# Altium schematic symbol library Schlib_Analog_Devices.SchLib: 86 symbols (part 2 of 2)

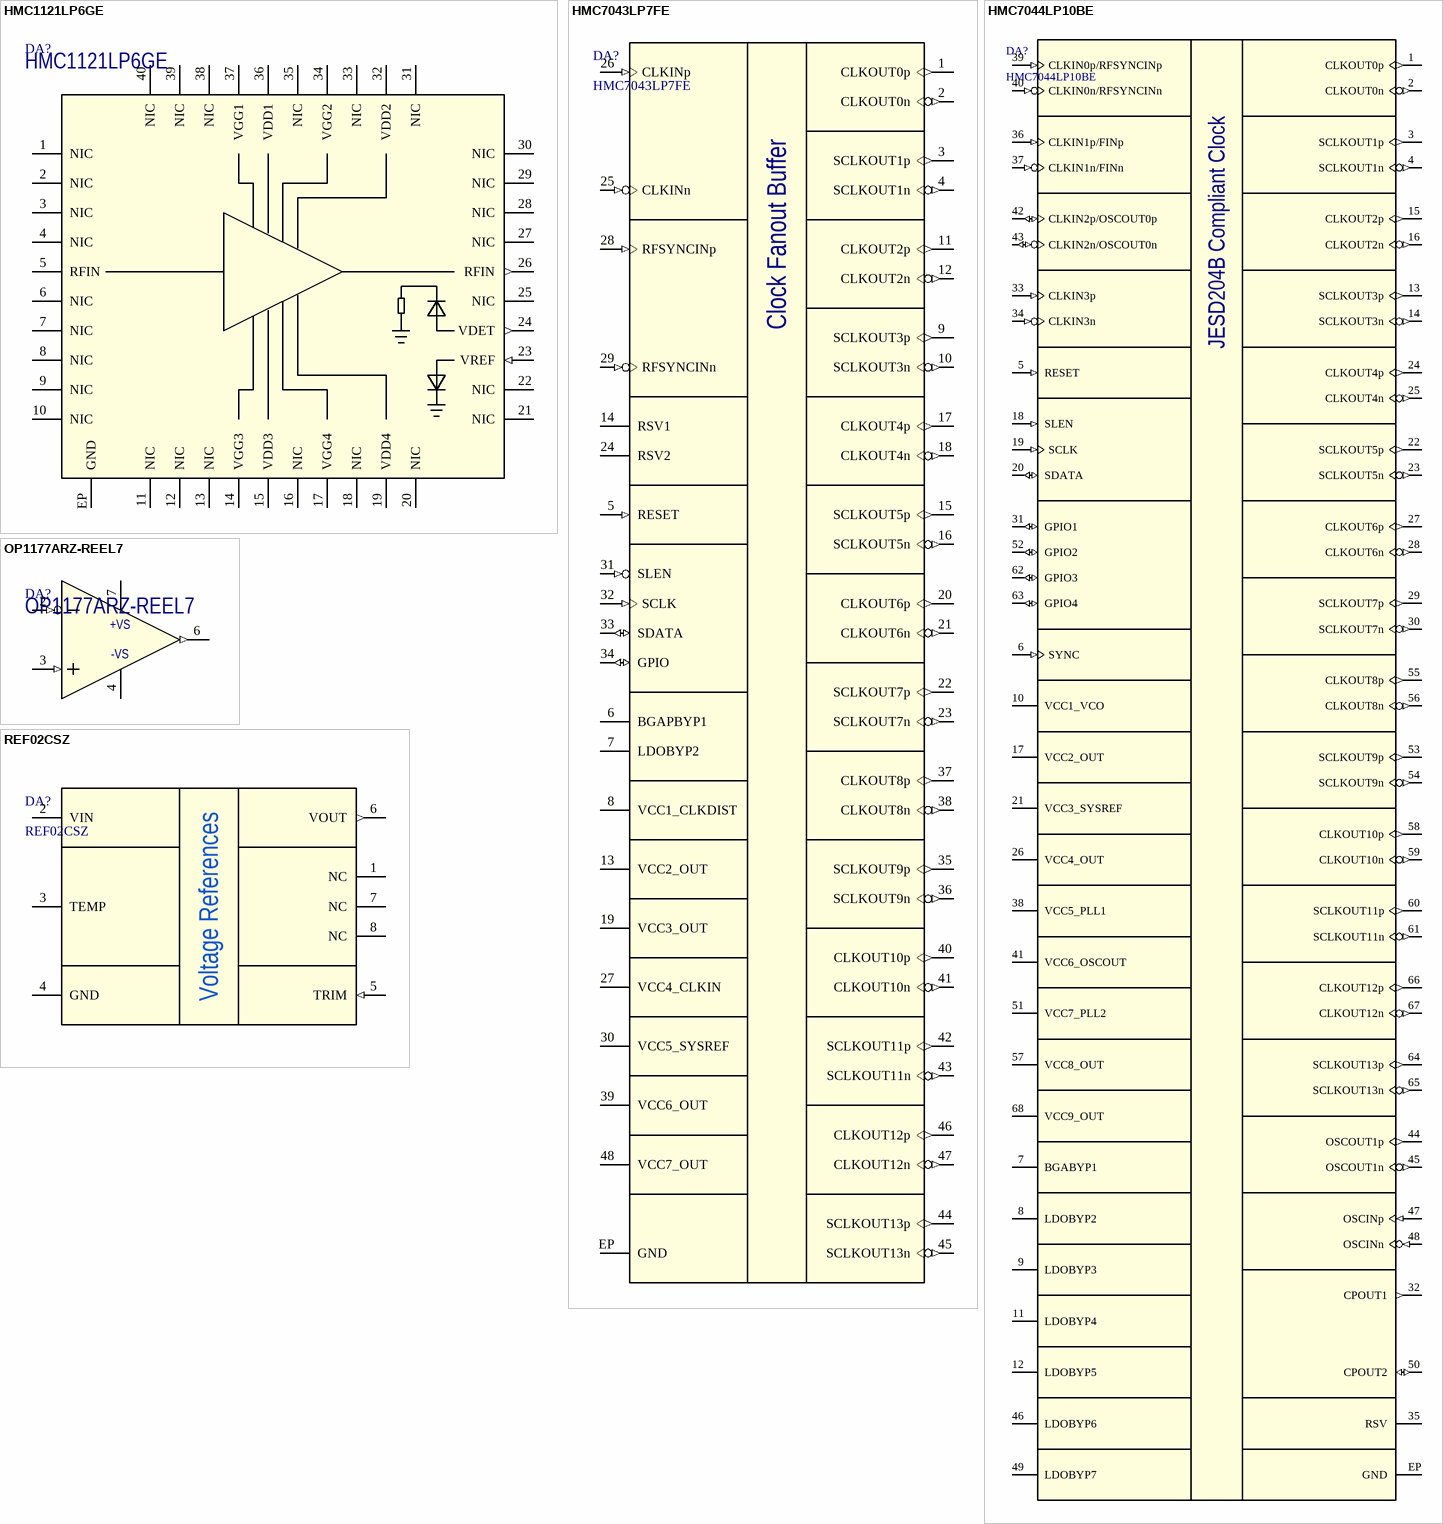
[diagram p9: symbols HMC1121LP6GE to REF02CSZ]

## HMC1121LP6GE
designator DA?
100 MHz to 30 GHz, Silicon SPDT Switch; Manufacturer: Analog Devices; Package: LFCSP-40; Part Number: HMC1121LP6GE
footprint LFCSP-40EP(HMC1121)
pins: 1 NIC, 2 NIC, 3 NIC, 4 NIC, 5 RFIN, 6 NIC, 7 NIC, 8 NIC, 9 NIC, 10 NIC, 11 NIC, 12 NIC, 13 NIC, 14 VGG3 (power), 15 VDD3 (power), 16 NIC, 17 VGG4 (power), 18 NIC, 19 VDD4 (power), 20 NIC, 21 NIC, 22 NIC, 23 VREF (in), 24 VDET (out), 25 NIC, 26 RFIN (out), 27 NIC, 28 NIC, 29 NIC, 30 NIC, 31 NIC, 32 VDD2 (power), 33 NIC, 34 VGG2 (power), 35 NIC, 36 VDD1 (power), 37 VGG1 (power), 38 NIC, 39 NIC, 40 NIC, EP GND

## HMC7043LP7FE
designator DA?
High Performance, 3.2 GHz, 14-Output Fanout Buffer; Manufacturer: Analog Devices; Part Number: HMC7043LP7FE; Package: LFCSP-48 (7mm x 7mm x 0.9mm)
footprint LFCSP-48(HCP-48-1) (QFN, 48-Leads, Body 7x7mm, Pitch 0.50mm, Thermal Pad 5.60x5.60mm, IPC Medium Density)
pins: 1 CLKOUT0p (out), 2 CLKOUT0n (out), 3 SCLKOUT1p (out), 4 SCLKOUT1n (out), 5 RESET (in), 6 BGAPBYP1, 7 LDOBYP2, 8 VCC1_CLKDIST (power), 9 SCLKOUT3p (out), 10 SCLKOUT3n (out), 11 CLKOUT2p (out), 12 CLKOUT2n (out), 13 VCC2_OUT (power), 14 RSV1 (hiz), 15 SCLKOUT5p (out), 16 SCLKOUT5n (out), 17 CLKOUT4p (out), 18 CLKOUT4n (out), 19 VCC3_OUT (power), 20 CLKOUT6p (out), 21 CLKOUT6n (out), 22 SCLKOUT7p (out), 23 SCLKOUT7n (out), 24 RSV2 (hiz), 25 CLKINn (in), 26 CLKINp (in), 27 VCC4_CLKIN (power), 28 RFSYNCINp (in), 29 RFSYNCINn (in), 30 VCC5_SYSREF (power), 31 SLEN (in), 32 SCLK (in), 33 SDATA (io), 34 GPIO (io), 35 SCLKOUT9p (out), 36 SCLKOUT9n (out), 37 CLKOUT8p (out), 38 CLKOUT8n (out), 39 VCC6_OUT (power), 40 CLKOUT10p (out), 41 CLKOUT10n (out), 42 SCLKOUT11p (out), 43 SCLKOUT11n (out), 44 SCLKOUT13p (out), 45 SCLKOUT13n (out), 46 CLKOUT12p (out), 47 CLKOUT12n (out), 48 VCC7_OUT (power), EP GND (power)
text: Clock Fanout Buffer

## HMC7044LP10BE
designator DA?
High Performance, 3.2 GHz, 14-Output Jitter Attenuator with JESD204B; Manufacturer: Analog Devices; Part Number: HMC7044LP10BE; Package: LFCSP-68 (10mm x 10mm x 0.9mm)
footprint QFN68_HMC7044 (HCP-68-1 case style)
pins: 1 CLKOUT0p (out), 2 CLKOUT0n (out), 3 SCLKOUT1p (out), 4 SCLKOUT1n (out), 5 RESET (in), 6 SYNC (in), 7 BGABYP1, 8 LDOBYP2, 9 LDOBYP3, 10 VCC1_VCO (power), 11 LDOBYP4, 12 LDOBYP5, 13 SCLKOUT3p (out), 14 SCLKOUT3n (out), 15 CLKOUT2p (out), 16 CLKOUT2n (out), 17 VCC2_OUT (power), 18 SLEN (in), 19 SCLK (in), 20 SDATA (io), 21 VCC3_SYSREF (power), 22 SCLKOUT5p (out), 23 SCLKOUT5n (out), 24 CLKOUT4p (out), 25 CLKOUT4n (out), 26 VCC4_OUT (power), 27 CLKOUT6p (out), 28 CLKOUT6n (out), 29 SCLKOUT7p (out), 30 SCLKOUT7n (out), 31 GPIO1 (io), 32 CPOUT1 (out), 33 CLKIN3p (in), 34 CLKIN3n (in), 35 RSV (hiz), 36 CLKIN1p/FINp (in), 37 CLKIN1n/FINn (in), 38 VCC5_PLL1 (power), 39 CLKIN0p/RFSYNCINp (in), 40 CLKIN0n/RFSYNCINn (in), 41 VCC6_OSCOUT (power), 42 CLKIN2p/OSCOUT0p (io), 43 CLKIN2n/OSCOUT0n (io), 44 OSCOUT1p (out), 45 OSCOUT1n (out), 46 LDOBYP6, 47 OSCINp (in), 48 OSCINn (in), 49 LDOBYP7, 50 CPOUT2 (io), 51 VCC7_PLL2 (power), 52 GPIO2 (io), 53 SCLKOUT9p (out), 54 SCLKOUT9n (out), 55 CLKOUT8p (out), 56 CLKOUT8n (out), 57 VCC8_OUT (power), 58 CLKOUT10p (out), 59 CLKOUT10n (out), 60 SCLKOUT11p (out), 61 SCLKOUT11n (out), 62 GPIO3 (io), 63 GPIO4 (io), 64 SCLKOUT13p (out), 65 SCLKOUT13n (out), 66 CLKOUT12p (out), 67 CLKOUT12n (out), 68 VCC9_OUT (power), EP GND (power)
text: JESD204B Compliant Clock

## OP1177ARZ-REEL7
designator DA?
Precision Low Noise, Low Input Bias Current Operational Amplifiers; Manufacturer: Analog Devices; Package: SOIC-8; Part Number: OP1177ARZ-REEL7
footprint SOIC-8 (SOIC-8 package)
pins: 2 IN- (in), 3 IN+ (in), 4 VS- (power), 6 OUT (out), 7 VS+ (power)
text: +VS; -VS

## REF02CSZ
designator DA?
Precision 5.0 V Voltage References; Manufacturer: Analog Devices; Package: SO-8; Part Number: REF02CSZ
footprint SOIC-8 (SOIC-8 package)
pins: 1 NC (hiz), 2 VIN (power), 3 TEMP, 4 GND (power), 5 TRIM (in), 6 VOUT (out), 7 NC (hiz), 8 NC (hiz)
text: Voltage References